# Altium schematic symbol library badge.SchLib: 29 symbols
Pins are listed as number, name and electrical type; pins without a type are passive.

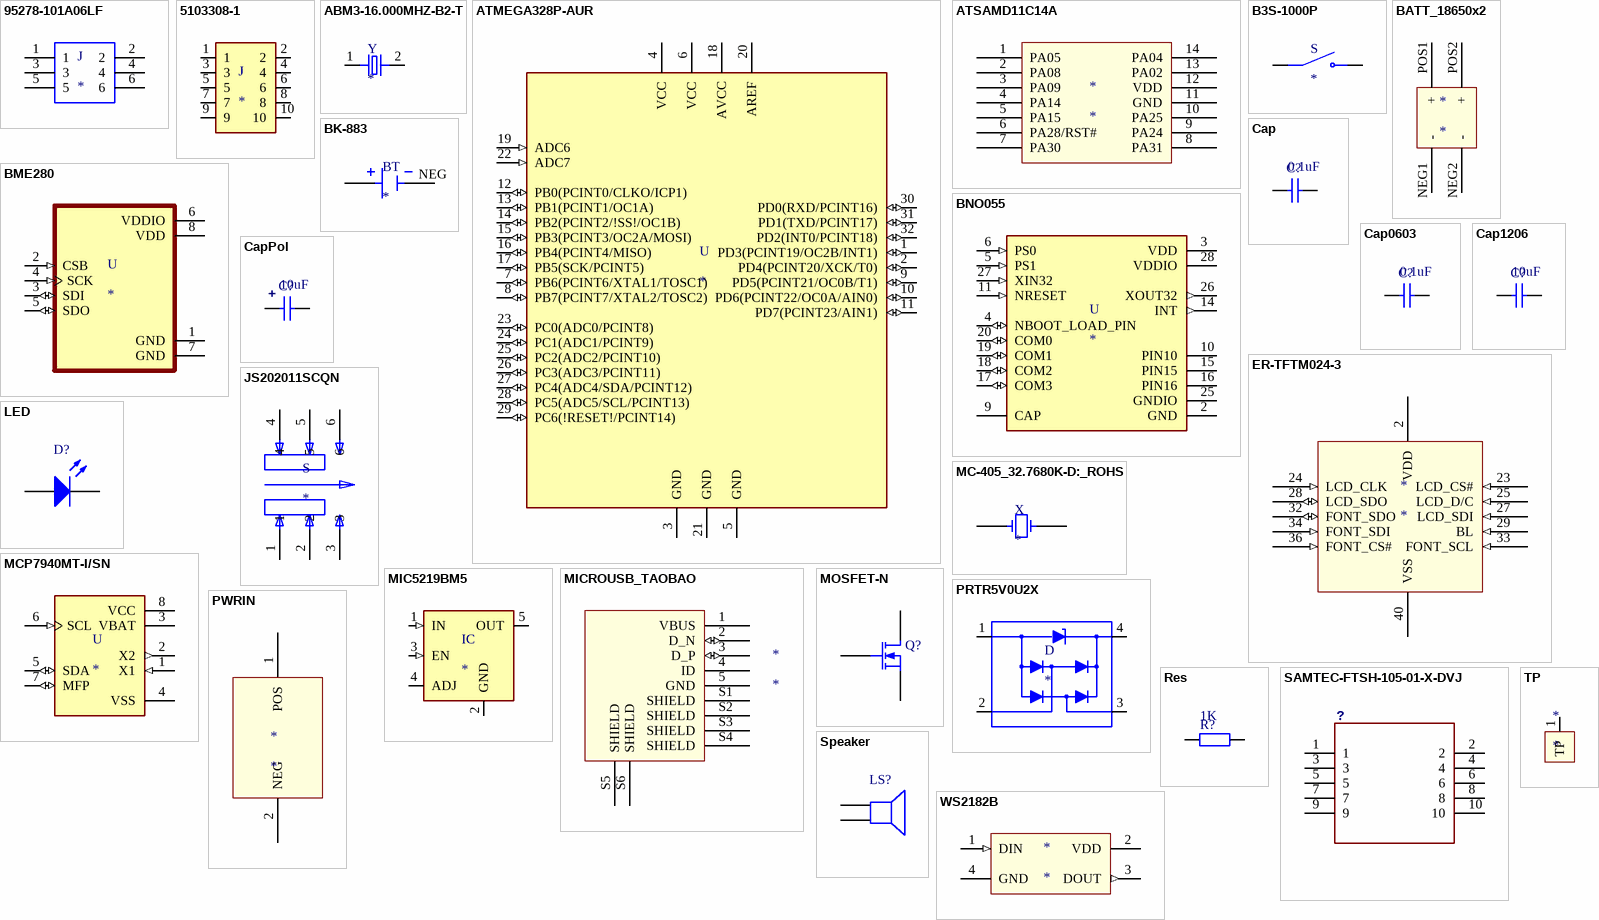
[diagram p0: symbols 95278-101A06LF to WS2182B]

## 95278-101A06LF
designator J
Connector Header Surface Mount 6 position 0.100 _2.54mm_; MF: Amphenol ICC; MP: 95278-101A06LF; Package: None; Value: *; Price: None; Availability: Unavailable; SnapEDA_Link: https://www.snapeda.com/parts/95278-101A06LF/Amphenol%20FCI/view-part/2763224/?ref=snap
footprint AMPHENOL_95278-101A06LF
pins: 1, 2, 3, 4, 5, 6

## 5103308-1
designator J
Header; Pin; Vertical; Copper Alloy; Thermoplastic; 10; 0.100 x 0.100 in.; 1 A; Product_Type: Connector; MF: TE Connectivity; Number_of_Positions: 10; MP: 5103308-1; Centerline_Pitch: 2.54 mm[.1 in]; Digi-Key_Purchase_URL: https://www.digikey.com/product-detail/en/te-connectivity-amp-connectors/5103308-1/A33159-ND/1114897?utm_source=snapeda&utm_medium=aggregator&utm_campaign=symbol; Digi-Key_Part_Number: A33159-ND; Package: None; Value: *; EU_RoHS_Compliance: Compliant; SnapEDA_Link: https://www.snapeda.com/parts/5103308-1/TE%20Connectivity%20AMP%20Connectors/view-part/428534/?ref=snap; TE_purchase_URL: https://www.te.com/usa-en/product-5103308-1.html?te_bu=Cor&te_type=disp&te_campaign=seda_glo_cor-seda-global-disp-prtnr-fy19-seda-model-bom-cta_sma-317_1&elqCampaignId=32493
footprint TE_5103308-1
pins: 1, 2, 3, 4, 5, 6, 7, 8, 9, 10

## ABM3-16.000MHZ-B2-T
designator Y
16MHz Â±20ppm Crystal 18pF 40 Ohms 2-SMD, No Lead; MP: ABM3-16.000MHZ-B2-T; MF: Abracon; Value: *; Package: SMD-2 Abracon; SnapEDA_Link: https://www.snapeda.com/parts/ABM3-16.000MHZ-B2-T/Abracon%20LLC/view-part/55266/?ref=snap; Digi-Key_Part_Number: 535-9103-1-ND; Digi-Key_Purchase_URL: https://www.digikey.com/product-detail/en/abracon-llc/ABM3-16.000MHZ-B2-T/535-9103-1-ND/675620?utm_source=snapeda&utm_medium=aggregator&utm_campaign=symbol
footprint XTAL_ECS-100-20-5PVX
pins: 1, 2

## ATMEGA328P-AUR
designator U
AVR AVRÂ® ATmega Microcontroller IC 8-Bit 20MHz 32KB _16K x 16_ FLASH 32-TQFP _7x7_; MF: Microchip; MP: ATMEGA328P-AUR; Package: TQFP-32 Microchip; Digi-Key_Part_Number: ATMEGA328P-AURCT-ND; Digi-Key_Purchase_URL: https://www.digikey.com/product-detail/en/microchip-technology/ATMEGA328P-AUR/ATMEGA328P-AURCT-ND/3789455?utm_source=snapeda&utm_medium=aggregator&utm_campaign=symbol; Value: *; SnapEDA_Link: https://www.snapeda.com/parts/ATMEGA328P-AUR/Microchip/view-part/1212624/?ref=snap
footprint QFP80P900X900X120-32N
pins: 1 PD3(PCINT19/OC2B/INT1) (io), 2 PD4(PCINT20/XCK/T0) (io), 3 GND (power), 4 VCC (power), 5 GND (power), 6 VCC (power), 7 PB6(PCINT6/XTAL1/TOSC1) (io), 8 PB7(PCINT7/XTAL2/TOSC2) (io), 9 PD5(PCINT21/OC0B/T1) (io), 10 PD6(PCINT22/OC0A/AIN0) (io), 11 PD7(PCINT23/AIN1) (io), 12 PB0(PCINT0/CLKO/ICP1) (io), 13 PB1(PCINT1/OC1A) (io), 14 PB2(PCINT2/!SS!/OC1B) (io), 15 PB3(PCINT3/OC2A/MOSI) (io), 16 PB4(PCINT4/MISO) (io), 17 PB5(SCK/PCINT5) (io), 18 AVCC (power), 19 ADC6 (in), 20 AREF (power), 21 GND (power), 22 ADC7 (in), 23 PC0(ADC0/PCINT8) (io), 24 PC1(ADC1/PCINT9) (io), 25 PC2(ADC2/PCINT10) (io), 26 PC3(ADC3/PCINT11) (io), 27 PC4(ADC4/SDA/PCINT12) (io), 28 PC5(ADC5/SCL/PCINT13) (io), 29 PC6(!RESET!/PCINT14) (io), 30 PD0(RXD/PCINT16) (io), 31 PD1(TXD/PCINT17) (io), 32 PD2(INT0/PCINT18) (io)

## ATSAMD11C14A
designator *
footprint SOIC127P600X175-14N
pins: 1 PA05, 2 PA08, 3 PA09, 4 PA14, 5 PA15, 6 PA28/RST#, 7 PA30, 8 PA31, 9 PA24, 10 PA25, 11 GND, 12 VDD, 13 PA02, 14 PA04

## B3S-1000P
designator S
Tactile Switch SPST-NO Top Actuated Surface Mount; MF: Omron Electronics; MP: B3S-1000P; Package: SMD-4 Omron Electronics Inc-EMC Div; Value: *; Price: None; Availability: Unavailable; SnapEDA_Link: https://www.snapeda.com/parts/B3S-1000P/Omron%20Electronics%20Inc-EMC%20Div/view-part/273491/?ref=snap
footprint SW_B3S-1000P
pins: 1 COM, 2 COM, 3 NO, 4 NO

## BATT_18650x2
designator *
footprint BATT_18650x2
pins: NEG1 -, NEG2 -, POS1 +, POS2 +

## BK-883
designator BT
Battery Retainer Coin, 20.0mm 1 Cell SMD _SMT_ Tab; MF: MPD _Memory; MP: BK-883-TR; Value: *; Availability: Unavailable; Package: None; Price: None; SnapEDA_Link: https://www.snapeda.com/parts/BK-883-TR/MPD%20%28Memory%20Protection%20Devices%29/view-part/386772/?ref=snap
footprint BAT_BK-883
pins: NEG, S1+ POS, S2+ POS

## BME280
designator U
Humidity Temperature Sensor 0 ~ 100% RH IÂ²C, SPI Â±3% 1s Surface Mount; MP: BME280; MF: Bosch; Price: None; Package: LGA-8 Bosch; Value: *; Availability: Unavailable; SnapEDA_Link: https://www.snapeda.com/parts/BME280/Bosch%20Sensortec/view-part/49769/?ref=snap
footprint PSON65P250X250X100-8N
pins: 1 GND (power), 2 CSB (in), 3 SDI (io), 4 SCK (in), 5 SDO (io), 6 VDDIO (power), 7 GND (power), 8 VDD (power)

## BNO055
designator U
Accelerometer, Gyroscope, Magnetometer, 9 Axis Sensor IÂ²C, UART Output; MP: BNO055; MF: Bosch; Digi-Key_Purchase_URL: https://www.digikey.com/product-detail/en/bosch-sensortec/BNO055/828-1058-1-ND/6136309?utm_source=snapeda&utm_medium=aggregator&utm_campaign=symbol; Value: *; Package: LGA-28 Bosch; SnapEDA_Link: https://www.snapeda.com/parts/BNO055/Bosch%20Sensortec/view-part/51961/?ref=snap; Digi-Key_Part_Number: 828-1058-1-ND
footprint LGA28R50P4X10_380X520X100
pins: 2 GND (power), 3 VDD (power), 4 NBOOT_LOAD_PIN (io), 5 PS1 (in), 6 PS0 (in), 9 CAP, 10 PIN10 (power), 11 NRESET (in), 14 INT (out), 15 PIN15 (power), 16 PIN16 (power), 17 COM3 (io), 18 COM2 (io), 19 COM1 (io), 20 COM0 (io), 25 GNDIO (power), 26 XOUT32 (out), 27 XIN32 (in), 28 VDDIO (power)

## Cap
designator C?  value 0.1uF
Capacitor; Published: 8-Jun-2000; LatestRevisionDate: 17-Jul-2002; LatestRevisionNote: Re-released for DXP Platform.; PackageReference: RAD-0.3; Publisher: Altium Limited; PackageDescription: SMD Capacitor
simulation model CAP (Capacitor)
signal-integrity model Cap
footprint C0603
footprint C0805 (Chip Capacitor, Body 2.0x1.3mm, IPC High Density)
footprint CAPAE430X550N
pins: 1, 2

## Cap0603
designator C?  value 0.1uF
Capacitor; Published: 8-Jun-2000; LatestRevisionDate: 17-Jul-2002; LatestRevisionNote: Re-released for DXP Platform.; PackageReference: 0603; Publisher: Altium Limited; PackageDescription: SMD Capacitor
simulation model CAP (Capacitor)
signal-integrity model Cap
footprint C0603
pins: 1, 2

## Cap1206
designator C?  value 10uF
Capacitor; Published: 8-Jun-2000; LatestRevisionDate: 17-Jul-2002; LatestRevisionNote: Re-released for DXP Platform.; PackageReference: 1206; Publisher: Altium Limited; PackageDescription: SMD Capacitor
footprint C1206 (Chip Capacitor, Body 3.2x1.6mm, IPC High Density)
pins: 1, 2

## CapPol
designator C?  value 10uF
Capacitor; Published: 8-Jun-2000; LatestRevisionDate: 17-Jul-2002; LatestRevisionNote: Re-released for DXP Platform.; PackageReference: CAP_POL; Publisher: Altium Limited; PackageDescription: SMD Capacitor
footprint C1206 _POL (Chip Capacitor, Body 3.2x1.6mm, IPC High Density)
footprint C1206 (Chip Capacitor, Body 3.2x1.6mm, IPC High Density)
pins: 1, 2
text: +

## ER-TFTM024-3
designator *
footprint ER-TFTM024-3 (ER-TFTM024-3 TFT LCD Module)
pins: 2 VDD (power), 23 LCD_CS# (in), 24 LCD_CLK (in), 25 LCD_D/C (in), 27 LCD_SDI (in), 28 LCD_SDO (io), 29 BL (in), 32 FONT_SDO (io), 33 FONT_SCL (in), 34 FONT_SDI (in), 36 FONT_CS# (in), 40 VSS

## JS202011SCQN
designator S
Slide Switch DPDT Surface Mount; MP: JS202011SCQN; MF: C&K; Value: *; Package: None; SnapEDA_Link: https://www.snapeda.com/parts/JS202011SCQN/C%26K/view-part/592122/?ref=snap; Digi-Key_Part_Number: 401-2002-1-ND; Digi-Key_Purchase_URL: https://www.digikey.com/product-detail/en/c-k/JS202011SCQN/401-2002-1-ND/1640098?utm_source=snapeda&utm_medium=aggregator&utm_campaign=symbol
footprint SW_JS202011SCQN
pins: 1, 2, 3, 4, 5, 6

## LED
designator D?
Typical  LED; Published: 8-Jun-2000; LatestRevisionDate: 08-Jul-2005; LatestRevisionNote: Mech Layer 1 removed.; PackageReference: LED-0; Publisher: Altium Limited; PackageDescription: LED; 2 Leads
footprint LED-0 (LED; 2 Leads)
simulation model LED0 (Diode)
footprint L0603
pins: 1 A, 2 K

## MC-405_32.7680K-D:_ROHS
designator X
32.768kHz Â±20ppm Crystal 35 kOhms 4-SOJ, 2.29mm pitch; MP: MC-405 32.7680K-D: ROHS; MF: EPSON; SnapEDA_Link: https://www.snapeda.com/parts/MC-405%2032.7680K-D:%20ROHS/EPSON/view-part/3612388/?ref=snap; Value: *; Package: 4-4 EPSON; Price: None; Availability: Unavailable
footprint XTAL320X150
pins: 1, 2

## MCP7940MT-I/SN
designator U
Real Time Clock _RTC_ IC Clock/Calendar 64B IÂ²C, 2-Wire Serial 8-SOIC _0.154, 3.90mm Width_; MF: Microchip; MP: MCP7940MT-I/SN; Package: SO-8 Microchip; Value: *; SnapEDA_Link: https://www.snapeda.com/parts/MCP7940MT-I/SN/Microchip/view-part/1118394/?ref=snap; Price: None; Availability: Unavailable
footprint SOIC127P600X175-8N (SOIC, 8-Leads, Body 4.90x3.90mm, Pitch 1.27mm, IPC Medium Density)
pins: 1 X1 (in), 2 X2 (out), 3 VBAT (power), 4 VSS, 5 SDA (io), 6 SCL (in), 7 MFP (io), 8 VCC (power)

## MIC5219BM5
designator IC
Linear Voltage Regulator IC 1 Output 500mA SOT-23-5; MF: Micrel; MP: MIC5219BM5; Package: SOT-753 Micrel; Value: *; Price: None; Availability: Unavailable; SnapEDA_Link: https://www.snapeda.com/parts/MIC5219BM5/Micrel/view-part/553192/?ref=snap
footprint SOT23-5_N (SOT23, 6-Leads, Body 2.9x1.6mm, Pitch 0.95mm, Lead Span 2.7mm, IPC Medium Density)
pins: 1 IN (in), 2 GND (power), 3 EN (in), 4 ADJ, 5 OUT (power)

## MICROUSB_TAOBAO
designator *
footprint MICROUSB_TAOBAO
pins: 1 VBUS (power), 2 D_N (io), 3 D_P (io), 4 ID, 5 GND (power), S1 SHIELD, S2 SHIELD, S3 SHIELD, S4 SHIELD, S5 SHIELD, S6 SHIELD

## MOSFET-N
designator Q?
N-Channel MOSFET; Published: 8-Jun-2000; LatestRevisionDate: 17-Jul-2002; LatestRevisionNote: Re-released for DXP Platform.; PackageVersion: 1995/1996; PackageReference: E3; Publisher: Altium Limited; PackageDescription: TO, Flat Index; 3 In-Line, Axial Leads; Body Dia. 4.6mm; Lead Dia. 0.5 mm (max)
footprint SOT23_N (SOT23, 3-Leads, Body 2.9x1.3mm, Pitch 0.95mm, Lead Span 2.3mm - Reverse Pinning, IPC Medium Density)
pins: 1 D, 2 S, 3 G

## PRTR5V0U2X
designator D
Clamp Ipp Tvs Diode Surface Mount SOT-143B; MP: PRTR5V0U2X; MF: NXP Semiconductors; Package: SOT-143 NXP Semiconductors; Availability: Unavailable; Price: None; Value: *; SnapEDA_Link: https://www.snapeda.com/parts/PRTR5V0U2X/NXP%20Semiconductors/view-part/4254511/?ref=snap
footprint SOT190P230X110-4N
pins: 1 GND, 2 I/O_1, 3 I/O_2, 4 VCC

## PWRIN
designator *
footprint PWRIN
pins: 1 POS (power), 2 NEG (power)

## Res
designator R?  value 1K
Resistor; Published: 8-Jun-2000; LatestRevisionDate: 17-Jul-2002; LatestRevisionNote: Re-released for DXP Platform.; PackageReference: AXIAL-0.4; Publisher: Altium Limited; PackageDescription: SMD Resistor
simulation model RESISTOR (Resistor)
signal-integrity model Res
footprint R0603
pins: 1, 2

## SAMTEC-FTSH-105-01-X-DVJ
designator ?
footprint SAMTEC-FTSH-105-01-X-DV
footprint SAMTEC-FTSH-105-01-X-DV
pins: 1, 2, 3, 4, 5, 6, 7, 8, 9, 10

## Speaker
designator LS?
Loudspeaker; Published: 24-Mar-1999; LatestRevisionDate: 17-Jul-2002; LatestRevisionNote: Re-released for DXP Platform.; PackageReference: PIN2; Publisher: Altium Limited
footprint SMC (DO-214-AB/SMC; 2 C-Bend Leads; Body 7.9 x 5.9 mm, inc. leads (LxW))
pins: 1, 2

## TP
designator *
footprint TP_1.27mm
pins: 1 TP

## WS2182B
designator *
footprint WS2812B_SIDE
pins: 1 DIN (in), 2 VDD (power), 3 DOUT (out), 4 GND (power)